# EAGLE library part MT3608 (library mt3608)
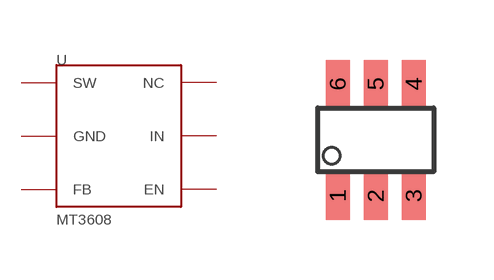
[diagram p0: symbol with the pads of SOT23-6; footprint SOT23-6]

Designator prefix U

## MT3608  [SOT23-6]
1  SW
2  GND  pwr
3  FB
4  EN
5  IN  in
6  NC  nc

## Footprint SOT23-6 (pad centres in mm)
Untested
smd 0.6 x 1.2: 1 -0.95,-1.4; 2 0,-1.4; 3 0.95,-1.4; 4 0.95,1.4; 5 0,1.4; 6 -0.95,1.4